# EAGLE library part PIC18F4XJ50 (library GadgetFactory_v1)
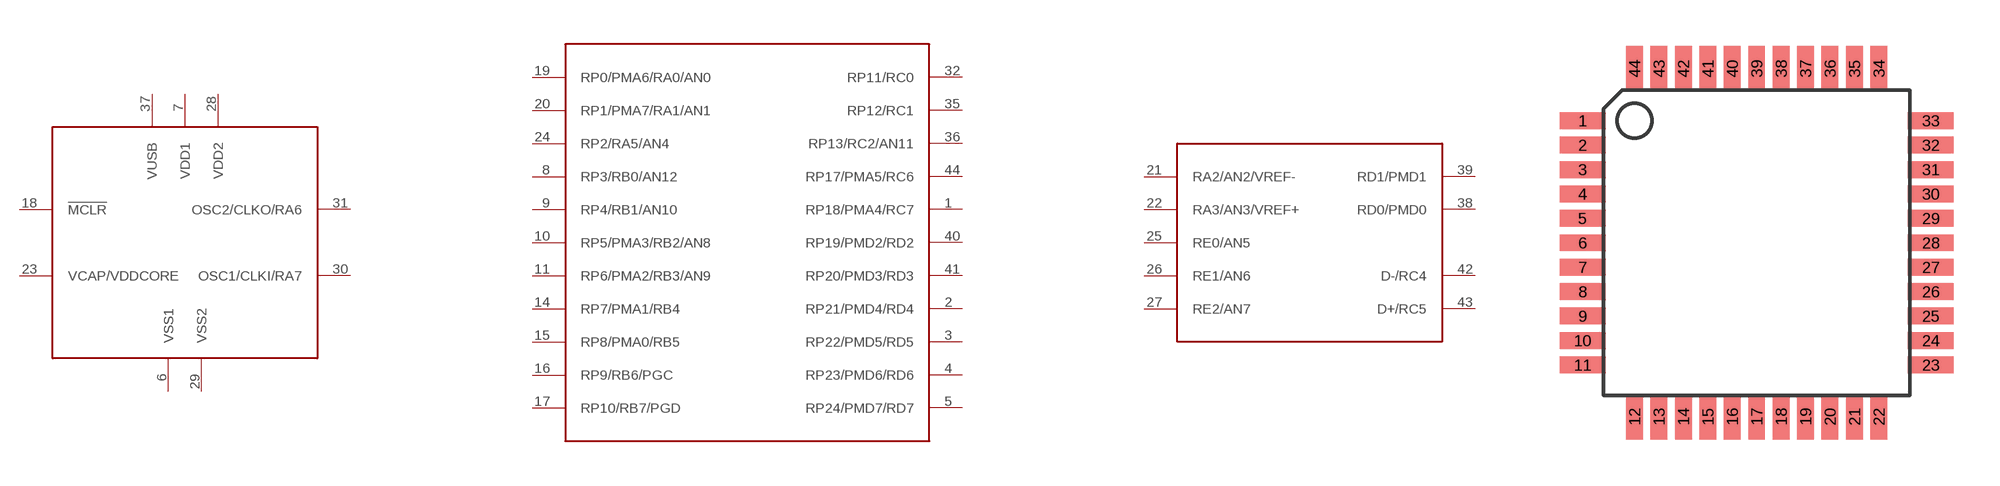
[diagram p19: symbol with the pads of TQFP44; footprint TQFP44]

Designator prefix -; gates RP=PIC18F4XJ50_RP_BLOCK PWR=PIC18F4XJ50_PWR COMM=PIC18F4XJ50_COMM

## PIC18F4XJ50PT  [TQFP44]
1  RP:RP18/PMA4/RC7
2  RP:RP21/PMD4/RD4
3  RP:RP22/PMD5/RD5
4  RP:RP23/PMD6/RD6
5  RP:RP24/PMD7/RD7
6  PWR:VSS1
7  PWR:VDD1
8  RP:RP3/RB0/AN12
9  RP:RP4/RB1/AN10
10  RP:RP5/PMA3/RB2/AN8
11  RP:RP6/PMA2/RB3/AN9
12  PWR:NC1  nc
13  PWR:NC2  nc
14  RP:RP7/PMA1/RB4
15  RP:RP8/PMA0/RB5
16  RP:RP9/RB6/PGC
17  RP:RP10/RB7/PGD
18  PWR:!MCLR
19  RP:RP0/PMA6/RA0/AN0
20  RP:RP1/PMA7/RA1/AN1
21  COMM:RA2/AN2/VREF-
22  COMM:RA3/AN3/VREF+
23  PWR:VCAP/VDDCORE
24  RP:RP2/RA5/AN4
25  COMM:RE0/AN5
26  COMM:RE1/AN6
27  COMM:RE2/AN7
28  PWR:VDD2
29  PWR:VSS2
30  PWR:OSC1/CLKI/RA7
31  PWR:OSC2/CLKO/RA6
32  RP:RP11/RC0
33  PWR:NC3  nc
34  PWR:NC4  nc
35  RP:RP12/RC1
36  RP:RP13/RC2/AN11
37  PWR:VUSB
38  COMM:RD0/PMD0
39  COMM:RD1/PMD1
40  RP:RP19/PMD2/RD2
41  RP:RP20/PMD3/RD3
42  COMM:D-/RC4
43  COMM:D+/RC5
44  RP:RP17/PMA5/RC6

## Footprint TQFP44 (pad centres in mm)
smd 1.5 x 0.55: 1 -5.7,4; 2 -5.7,3.2; 3 -5.7,2.4; 4 -5.7,1.6; 5 -5.7,0.8; 6 -5.7,0; 7 -5.7,-0.8; 8 -5.7,-1.6; 9 -5.7,-2.4; 10 -5.7,-3.2; 11 -5.7,-4; 23 5.7,-4; 24 5.7,-3.2; 25 5.7,-2.4; 26 5.7,-1.6; 27 5.7,-0.8; 28 5.7,0; 29 5.7,0.8; 30 5.7,1.6; 31 5.7,2.4; 32 5.7,3.2; 33 5.7,4
smd 0.55 x 1.5: 12 -4,-5.7; 13 -3.2,-5.7; 14 -2.4,-5.7; 15 -1.6,-5.7; 16 -0.8,-5.7; 17 0,-5.7; 18 0.8,-5.7; 19 1.6,-5.7; 20 2.4,-5.7; 21 3.2,-5.7; 22 4,-5.7; 34 4,5.7; 35 3.2,5.7; 36 2.4,5.7; 37 1.6,5.7; 38 0.8,5.7; 39 0,5.7; 40 -0.8,5.7; 41 -1.6,5.7; 42 -2.4,5.7; 43 -3.2,5.7; 44 -4,5.7